# Altium schematic symbol library PEC11H-4020F-S0016.SchLib: 1 symbol
Pins are listed as number, name and electrical type; pins without a type are passive.

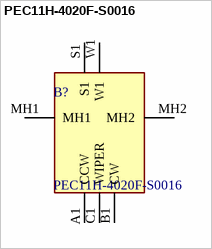
[diagram p0: symbol PEC11H-4020F-S0016]

## PEC11H-4020F-S0016
designator B?
Encoders ROTARY ENCODER W/BALL SPRING; Manufacturer_Name: Bourns; Geometry.Height: 27mm; Mouser Part Number: 652-PEC11H4020FS0016; Mouser Price/Stock: https://www.mouser.co.uk/ProductDetail/Bourns/PEC11H-4020F-S0016?qs=7MVldsJ5Uaz%252B8OdHRKxgZA%3D%3D; Manufacturer_Part_Number: PEC11H-4020F-S0016; Datasheet Link: https://componentsearchengine.com/Datasheets/2/PEC11H-4020F-S0016.pdf
footprint PEC11H4020FS0016
pins: A1 CCW, B1 CW, C1 WIPER, MH1, MH2, S1, W1